# Altium schematic symbol library SCH_LIB.SchLib: 64 symbols
Pins are listed as number, name and electrical type; pins without a type are passive.

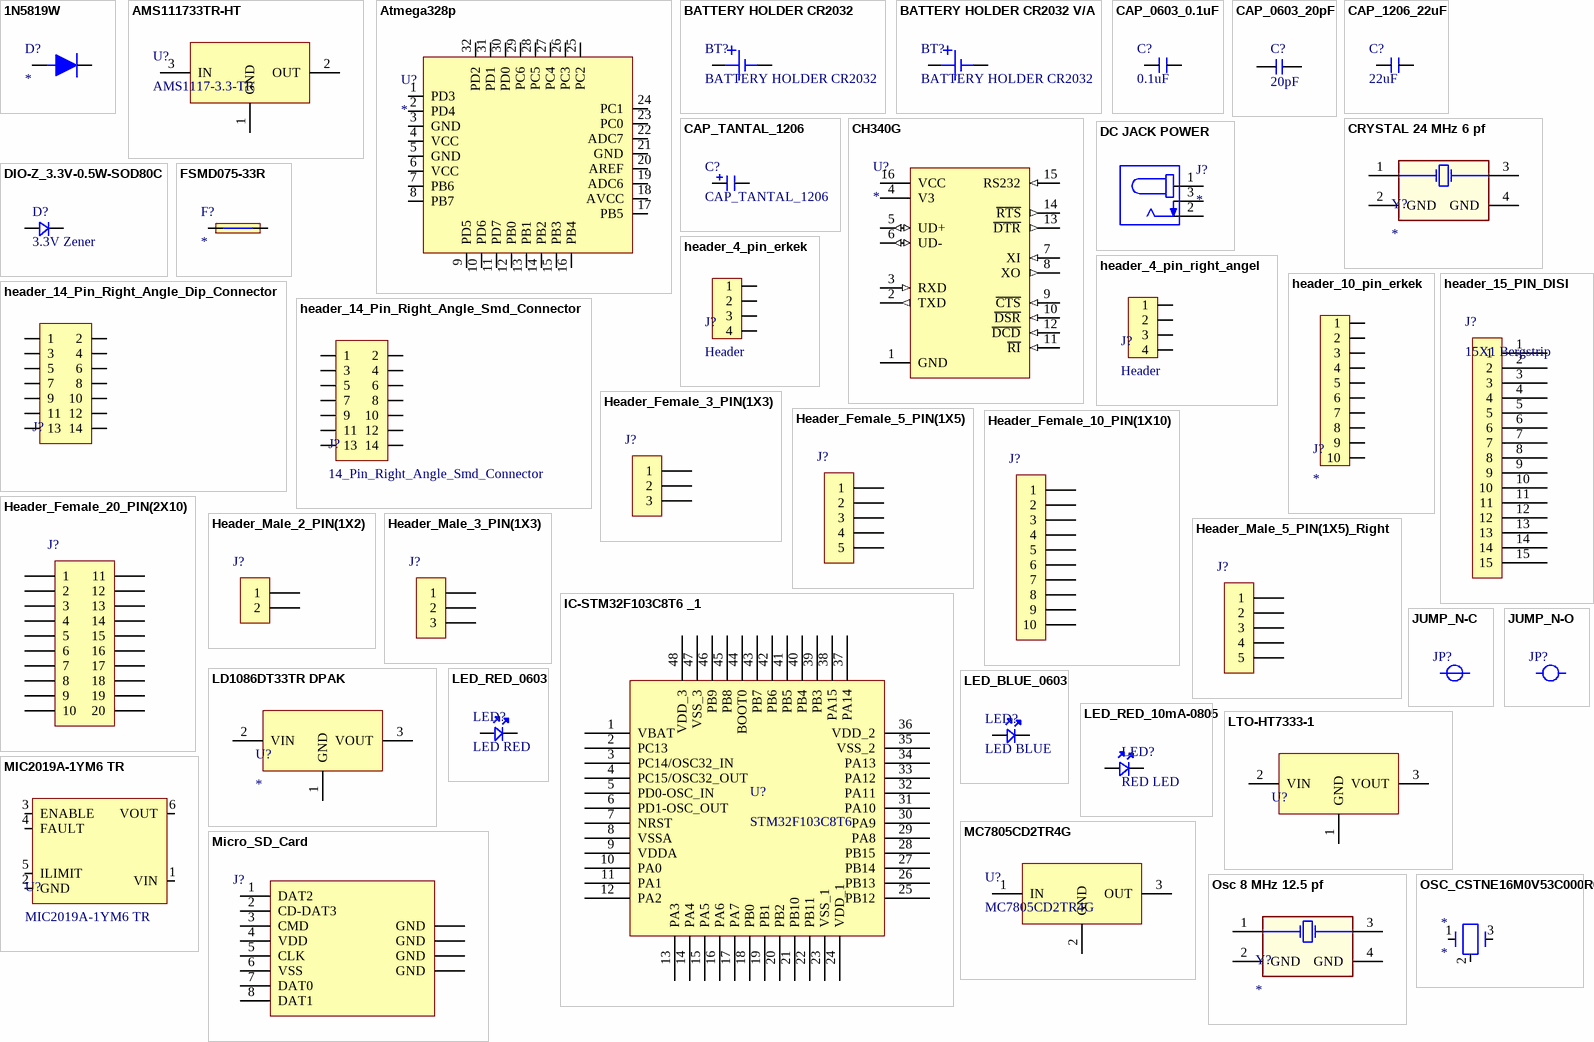
[diagram p0: symbols 1N5819W to OSC_CSTNE16M0V53C000R0]

## 1N5819W
designator D?
DIODE SCHOTTKY 1A 40V SOD123; ComponentLink1Description: https://ozdisan.com/guc-yari-iletkenleri/diyotlar-modul-diyotlar-ve-dogrultucular/schottky-diyotlar/B5819W/469437; ComponentLink1URL: https://ozdisan.com/guc-yari-iletkenleri/diyotlar-modul-diyotlar-ve-dogrultucular/schottky-diyotlar/B5819W/469437
footprint SOD-123
pins: A AN, C CA

## AMS111733TR-HT
designator U?, comment AMS1117-3.3-TR
IC-1117 REG LDO 3.3V 1A SOT223; ComponentLink1Description: https://ozdisan.com/Product/Detail/524953/AMS111733TR-HT; ComponentLink1URL: https://ozdisan.com/Product/Detail/524953/AMS111733TR-HT
footprint SOT-223
pins: 1 GND, 2 OUT, 3 IN

## Atmega328p
designator U?
footprint TQFP32 (TQFP, 32-Leads, Body 7,00x7,00mm, Pitch 0,80mm, IPC Medium Density)
pins: 1 PD3, 2 PD4, 3 GND, 4 VCC, 5 GND, 6 VCC, 7 PB6, 8 PB7, 9 PD5, 10 PD6, 11 PD7, 12 PB0, 13 PB1, 14 PB2, 15 PB3, 16 PB4, 17 PB5, 18 AVCC, 19 ADC6, 20 AREF, 21 GND, 22 ADC7, 23 PC0, 24 PC1, 25 PC2, 26 PC3, 27 PC4, 28 PC5, 29 PC6, 30 PD0, 31 PD1, 32 PD2

## BATTERY HOLDER CR2032
designator BT?
BATTERY HOLDER SMD FOR CR2032 METAL BULK; ComponentLink1Description: https://ozdisan.com/bataryalar/batarya-aksesuarlari/pil-yuvalari/BH201/355554; ComponentLink1URL: https://ozdisan.com/bataryalar/batarya-aksesuarlari/pil-yuvalari/BH201/355554
footprint BATTERY HOLDER CR2032
pins: N 1, P 0

## BATTERY HOLDER CR2032 V/A
designator BT?, comment BATTERY HOLDER CR2032
BATTERY HOLDER FOR CR2032 LOCKED V/A; ComponentLink1Description: https://ozdisan.com/bataryalar/batarya-aksesuarlari/pil-yuvalari/BH201/355554; ComponentLink1URL: https://ozdisan.com/bataryalar/batarya-aksesuarlari/pil-yuvalari/BH201/355554
footprint BATTERY HOLDER CR2032 V/A (BATTERY HOLDER FOR CR2032 LOCKED V/A)
pins: N 1, P 0

## CAP_0603_0.1uF
designator C?, comment 0.1uF
footprint CAP 0603 (Chip Capacitor, 2-Leads, Body 1,55x0,85mm, IPC Medium Density)
pins: 1, 2

## CAP_0603_20pF
designator C?, comment 20pF
footprint CAP 0603 (Chip Capacitor, 2-Leads, Body 1,55x0,85mm, IPC Medium Density)
pins: 1, 2

## CAP_1206_22uF
designator C?, comment 22uF
footprint CAP 1206 (Chip Capacitor, 2-Leads, Body 3,20x1,60mm, IPC Medium Density)
pins: 1, 2

## CAP_TANTAL_1206
designator C?
CAP.TANTAL 10uF 10V 10% A CASE (3216)
footprint CAP -Tantal-1206 (CAP.TANTAL 10uF 10V 10% A CASE (3216))
pins: A 1, K 2

## CH340G
designator U?
IC-340 USB INTERFACE SO16; ComponentLink1Description: https://www.ozdisan.com/entegre-devreler-icler/interface-entegreleri/arayuz-kontrolor-entegreleri/CH340G/469466; ComponentLink1URL: https://www.ozdisan.com/entegre-devreler-icler/interface-entegreleri/arayuz-kontrolor-entegreleri/CH340G/469466
footprint SOIC16N
pins: 1 GND (power), 2 TXD (out), 3 RXD (in), 4 V3 (power), 5 UD+ (io), 6 UD- (io), 7 XI (in), 8 XO (out), 9 ~{CTS} (in), 10 ~{DSR} (in), 11 ~{RI} (in), 12 ~{DCD} (in), 13 ~{DTR} (out), 14 ~{RTS} (out), 15 RS232 (in), 16 VCC (power)

## CRYSTAL 24 MHz 6 pf
designator Y?
8 MHz 12.5 pf Osc
footprint OSC_XRCGB24M000F2P00R0
pins: 1 (power) "Regulator Input Supply. Bypass IN to GND with a 1 uF or greater capacitor.", 2 GND (power) "Ground.", 3 "Enable Input. Drive EN high to turn on the regulator; drive it low to turn off the regulator. For automatic startup, connect EN to IN.", 4 GND "Connect a 1 nF or greater capacitor (10 nF is recommended) between BYP and GND to reduce the internal reference noise for low noise applications."

## DC JACK POWER
designator J?
CONNECTOR DC JACK POWER PCB TYPE 2.50MM; ComponentLink1Description: https://ozdisan.com/konnektor-ve-baglanti-elemanlari/power-konnektorler/power-jackler/CK-DC-25-01/693202; ComponentLink1URL: https://ozdisan.com/konnektor-ve-baglanti-elemanlari/power-konnektorler/power-jackler/CK-DC-25-01/693202
footprint DC JACK POWER (CONNECTOR DC JACK POWER PCB TYPE 2.50MM)
pins: 1, 2, 3

## DIO-Z_3.3V-0.5W-SOD80C
designator D?, comment 3.3V Zener
Zener Diode 3.3V 500mW ±5% Surface Mount LLDS; MiniMelf; Manufacturer: Nexperia USA Inc.; Manufacturing Part Number: BZV55-C3V3,115; Case/Package: SOD80C; Supplier-1: Digikey; Supplier Part Number-1: 1727-4970-1-ND
footprint DIO_SOD80C (Voltage regulator diodes)
pins: A, K

## FSMD075-33R
designator F?
THERMISTOR PTC RESETTABLE FUSE 1812 750mA 33V; ComponentLink1Description: https://ozdisan.com/devre-koruyucular/sigorta-bilesenleri/ptc-sigortalar/FSMD075-33R/537034; ComponentLink1URL: https://ozdisan.com/devre-koruyucular/sigorta-bilesenleri/ptc-sigortalar/FSMD075-33R/537034
footprint PTC_1812
pins: 1, 2

## header_4_pin_erkek
designator J?, comment Header
footprint HEADER_4_PIN_ERKEK (Berg strip)
pins: 1, 2, 3, 4

## header_4_pin_right_angel
designator J?, comment Header
footprint HEADER_4_pin_right_angle_dip
pins: 1, 2, 3, 4

## header_10_pin_erkek
designator J?
footprint HEADER_10_pin_erkek_ (Berg strip)
pins: 1, 2, 3, 4, 5, 6, 7, 8, 9, 10

## header_14_Pin_Right_Angle_Dip_Connector
designator J?
footprint HEADER_14_pin_right_angle_dip
pins: 1, 2, 3, 4, 5, 6, 7, 8, 9, 10, 11, 12, 13, 14

## header_14_Pin_Right_Angle_Smd_Connector
designator J?, comment 14_Pin_Right_Angle_Smd_Connector
footprint HEADER_14_Pin_Right_Angle_Smd_Connector
pins: 1, 2, 3, 4, 5, 6, 7, 8, 9, 10, 11, 12, 13, 14

## header_15_PIN_DISI
designator J?, comment 15X1 Bergstrip
20 pin, 1 row, 2.54mm pitch bergstrip; Manufacturer: NA; Manufacturing Part Number: NA; Case/Package: TH; Supplier-1: NA; Supplier Part Number-1: NA
footprint HEADER_15_PIN_DISI (Berg strip)
pins: 1, 2, 3, 4, 5, 6, 7, 8, 9, 10, 11, 12, 13, 14, 15

## Header_Female_3_PIN(1X3)
designator J?
PIN HEADER 3PIN(1x3) 2.54mm THT V\T
footprint HEADER_FEMALE_3_PIN(1X3)
pins: 1, 2, 3

## Header_Female_5_PIN(1X5)
designator J?
PIN HEADER 5PIN(1x5) 2.54mm THT V\T
footprint HEADER_FEMALE_5_PIN(1X5) (Berg strip)
pins: 1, 2, 3, 4, 5

## Header_Female_10_PIN(1X10)
designator J?
FEMALE HEADER 10PIN(1x10) 2.54mm THT V/T TRAY
footprint HEADER_FEMALE_10_PIN(1X10) (Berg strip)
pins: 1, 2, 3, 4, 5, 6, 7, 8, 9, 10

## Header_Female_20_PIN(2X10)
designator J?
FEMALE HEADER 20PIN(2x10) 2.54mm THT V/T TRAY; Manufacturer: NA; Manufacturing Part Number: NA; Case/Package: TH; Supplier-1: NA; Supplier Part Number-1: NA
footprint HEADER_FEMALE_20_PIN(2X10) (Berg strip)
pins: 1, 2, 3, 4, 5, 6, 7, 8, 9, 10, 11, 12, 13, 14, 15, 16, 17, 18, 19, 20

## Header_Male_2_PIN(1X2)
designator J?
PIN HEADER 2PIN(1x2) 2.54mm THT V/T
footprint HEADER_MALE_2_PIN(1X2)
pins: 1, 2

## Header_Male_3_PIN(1X3)
designator J?
PIN HEADER 3PIN(1x3) 2.54mm THT V/T
footprint HEADER_MALE_3_PIN(1X3)
pins: 1, 2, 3

## Header_Male_5_PIN(1X5)_Right
designator J?
PIN HEADER 5PIN(1x5) 2.54mm THT R/A
footprint HEADER_MALE_5_PIN(1X5)_RIGHT
pins: 1, 2, 3, 4, 5

## IC-STM32F103C8T6 _1
designator U?, comment STM32F103C8T6
ARM® Cortex®-M3 STM32F1 Microcontroller IC 32-Bit 72MHz 64KB (64K x 8) FLASH; Manufacturer: STMicroelectronics; Manufacturer Part Number: STM32F103C8T6; Case/Package: 48-LQFP; Supplier-1: Digikey; Supplier Part Number-1: 497-6063-ND
footprint LQFP-48_19.6_393_58X11_SMD (48LQFP)
pins: 1 VBAT, 2 PC13, 3 PC14/OSC32_IN, 4 PC15/OSC32_OUT, 5 PD0-OSC_IN, 6 PD1-OSC_OUT, 7 NRST, 8 VSSA, 9 VDDA, 10 PA0, 11 PA1, 12 PA2, 13 PA3, 14 PA4, 15 PA5, 16 PA6, 17 PA7, 18 PB0, 19 PB1, 20 PB2, 21 PB10, 22 PB11, 23 VSS_1, 24 VDD_1, 25 PB12, 26 PB13, 27 PB14, 28 PB15, 29 PA8, 30 PA9, 31 PA10, 32 PA11, 33 PA12, 34 PA13, 35 VSS_2, 36 VDD_2, 37 PA14, 38 PA15, 39 PB3, 40 PB4, 41 PB5, 42 PB6, 43 PB7, 44 BOOT0, 45 PB8, 46 PB9, 47 VSS_3, 48 VDD_3

## JUMP_N-C
designator JP?  (value not drawn)
footprint JUMP_N-C 0,254
pins: 1, 2

## JUMP_N-O
designator JP?
footprint JUMP_N-O  0,254
pins: 1, 2

## LD1086DT33TR DPAK
designator U?
LD1086 3.3V REGULATOR
footprint DPAK228P972X230-3N (D-PAK, 3-Pads, Body 6,40x6,56mm (max), IPC Medium Density)
pins: 1 GND, 2 VIN, 3 VOUT

## LED_BLUE_0603
designator LED?, comment LED BLUE
footprint LED_0603
pins: A, C

## LED_RED_10mA-0805
designator LED?, comment RED LED
Red 621nm LED Indication - Discrete 2V 0805 (2012 Metric); Manufacturer: Lite-On Inc.; Manufacturer Part Number: LTST-C170EKT; Case/ Package: 0805; Supplier-1: Digikey; Supplier Part Number-1: 160-1178-1-ND
footprint LED_0805 (LED)
pins: A, C

## LED_RED_0603
designator LED?, comment LED RED
footprint LED_0603
pins: A, C

## LTO-HT7333-1
designator U?
HT7333-1 / 30V, 250mA TinyPowerTM LDO
footprint SOT89-150P350X150-3N (SOT89, 3-Leads, Body 4,55x2,50mm, Pitch 1,50mm, Lead Span 3,5mm, IPC Medium Density)
pins: 1 GND, 2 VIN, 3 VOUT

## MC7805CD2TR4G
designator U?
IC-7805 V.REG.+5V 1A D2PAK(TO263) SMD; ComponentLink1Description: https://ozdisan.com/entegre-devreler-icler/guc-entegreleri/lineer-voltaj-regulatorleri/MC7805CD2TR4G/361988; ComponentLink1URL: https://ozdisan.com/entegre-devreler-icler/guc-entegreleri/lineer-voltaj-regulatorleri/MC7805CD2TR4G/361988
footprint D2PAK(TO263)
pins: 1 IN, 2 GND, 3 OUT

## MIC2019A-1YM6 TR
designator U?
footprint SOT95P280X90-6N (SOT23, 6-Leads, Body 2,90x2,80mm, Pitch 0,95mm, IPC Medium Density)
pins: 1 VIN, 2 GND, 3 ENABLE, 4 FAULT, 5 ILIMIT, 6 VOUT

## Micro_SD_Card
designator J?  (value not drawn)
CONNECTOR MICRO SD 8PIN RIGHT ANGLE SMD H1.8; ComponentLink1Description: https://www.ozdisan.com/konnektor-ve-baglanti-elemanlari/hafiza-konnektorleri/pc-kart-soketleri/L-KLS1-TF-007-H1-8-R/530252; ComponentLink1URL: https://www.ozdisan.com/konnektor-ve-baglanti-elemanlari/hafiza-konnektorleri/pc-kart-soketleri/L-KLS1-TF-007-H1-8-R/530252
footprint Micro_SD_Card
pins: 1 DAT2 (power), 2 CD-DAT3, 3 CMD (power), 4 VDD (power), 5 CLK (power), 6 VSS (power), 7 DAT0 (power), 8 DAT1 (power), GND, GND, GND, GND

## Osc 8 MHz 12.5 pf
designator Y?
8 MHz 12.5 pf Osc
footprint OSC 8 MHZ
pins: 1 (power) "Regulator Input Supply. Bypass IN to GND with a 1 uF or greater capacitor.", 2 GND (power) "Ground.", 3 "Enable Input. Drive EN high to turn on the regulator; drive it low to turn off the regulator. For automatic startup, connect EN to IN.", 4 GND "Connect a 1 nF or greater capacitor (10 nF is recommended) between BYP and GND to reduce the internal reference noise for low noise applications."

## OSC_CSTNE16M0V53C000R0
designator *
footprint OSC_CSTNE16M0V53C000R0
pins: 1 0, 2 GND, 3 1

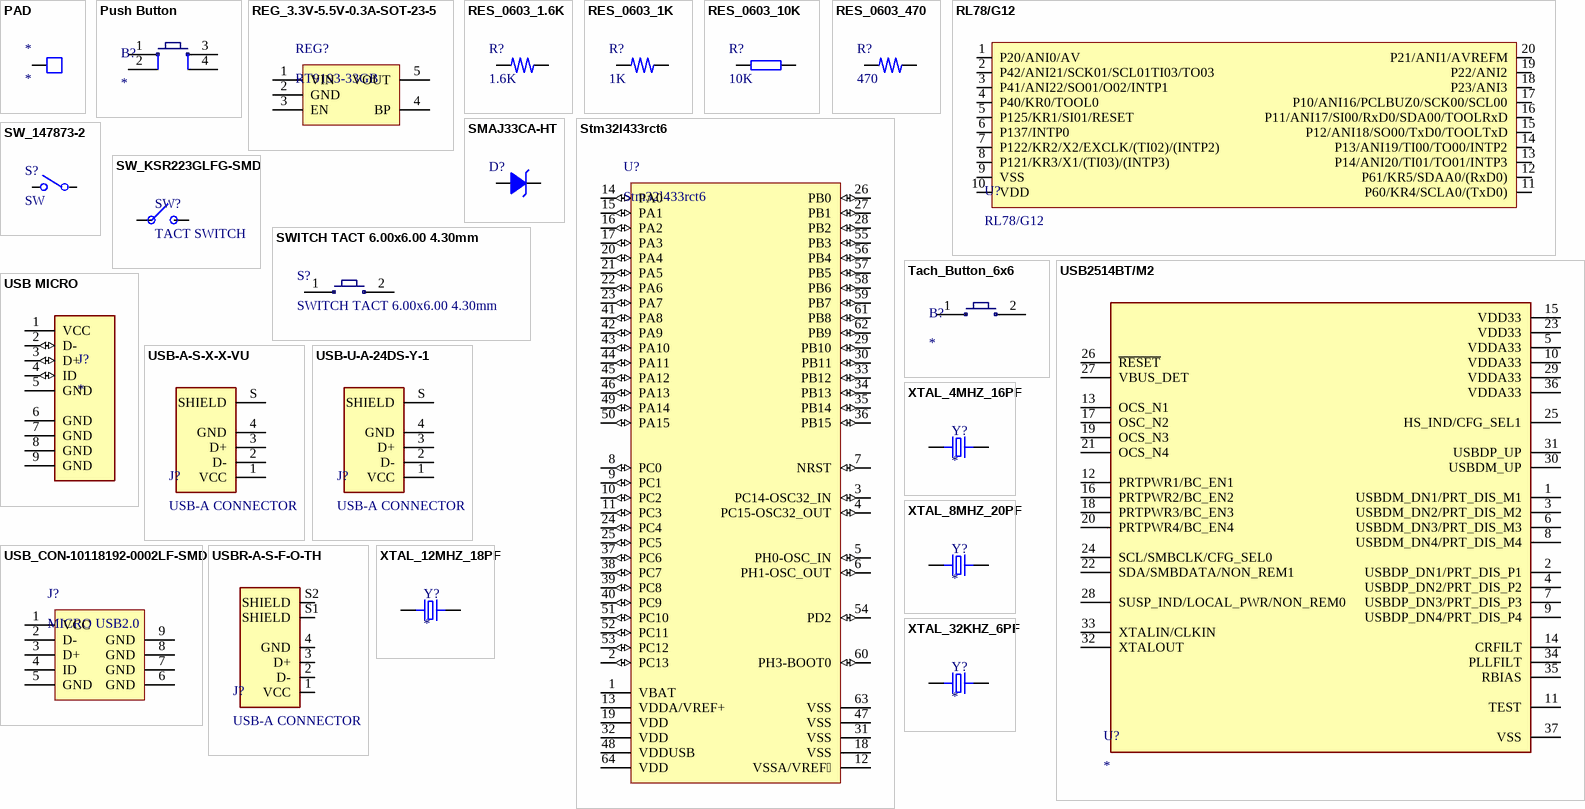
[diagram p1: symbols PAD to XTAL_32KHZ_6PF]

## PAD
designator *
footprint PAD (2MM)
pins: 1 2

## Push Button
designator B?
Smd Push Button; Satın Alma Linki: https://urun.n11.com/diger/mini-pushbutton-switch-smd-P227461537?gclid=Cj0KCQjwkoDmBRCcARIsAG3xzl8Y_-jeD7HocNM6lvuZ_rVp83568XPGtNzlPwXWLph8oCRqo0yh87UaApZYEALw_wcB&gclsrc=aw.ds
footprint PUSB BUTTON-SMD
footprint switch_button
pins: 1, 2, 3, 4

## REG_3.3V-5.5V-0.3A-SOT-23-5
designator REG?, comment RT9193-33GB
Linear Voltage Regulator IC 1 Output 300mA SOT-23-5; Manufacturer: Richtek USA Inc.; Manufacturer Part Number: RT9193-33GB; Case/ Package: SOT-23-5; Supplier-1: Digikey; Supplier Part Number-1: 1028-1014-1-ND
footprint SOT23-5 (CASE: SOT)
pins: 1 VIN, 2 GND, 3 EN, 4 BP, 5 VOUT

## RES_0603_1.6K
designator R?, comment 1.6K
footprint RES 0603 (Chip Capacitor, 2-Leads, Body 1,55x0,85mm, IPC Medium Density)
pins: 1, 2

## RES_0603_1K
designator R?, comment 1K
footprint RES 0603 (Chip Capacitor, 2-Leads, Body 1,55x0,85mm, IPC Medium Density)
pins: 1, 2

## RES_0603_10K
designator R?, comment 10K
footprint RES 0603 (Chip Capacitor, 2-Leads, Body 1,55x0,85mm, IPC Medium Density)
pins: 1, 2

## RES_0603_470
designator R?, comment 470
footprint RES 0603 (Chip Capacitor, 2-Leads, Body 1,55x0,85mm, IPC Medium Density)
pins: 1, 2

## RL78/G12
designator U?
footprint LSSOP20 (TSOP, 20-Leads, Body 6,50x4,40mm, Pitch 0,65mm, IPC Medium Density)
pins: 1 P20/ANI0/AV, 2 P42/ANI21/SCK01/SCL01TI03/TO03, 3 P41/ANI22/SO01/O02/INTP1, 4 P40/KR0/TOOL0, 5 P125/KR1/SI01/RESET, 6 P137/INTP0, 7 P122/KR2/X2/EXCLK/(TI02)/(INTP2), 8 P121/KR3/X1/(TI03)/(INTP3), 9 VSS, 10 VDD, 11 P60/KR4/SCLA0/(TxD0), 12 P61/KR5/SDAA0/(RxD0), 13 P14/ANI20/TI01/TO01/INTP3, 14 P13/ANI19/TI00/TO00/INTP2, 15 P12/ANI18/SO00/TxD0/TOOLTxD, 16 P11/ANI17/SI00/RxD0/SDA00/TOOLRxD, 17 P10/ANI16/PCLBUZ0/SCK00/SCL00, 18 P23/ANI3, 19 P22/ANI2, 20 P21/ANI1/AVREFM

## SMAJ33CA-HT
designator D?  (value not drawn)
DIODE TVS 400W 33V DO214AC SMA; ComponentLink1Description: https://ozdisan.com/guc-yari-iletkenleri/diyotlar-modul-diyotlar-ve-dogrultucular/tvs-diyotlar/SMAJ33CA-HT/466822; ComponentLink1URL: https://ozdisan.com/guc-yari-iletkenleri/diyotlar-modul-diyotlar-ve-dogrultucular/tvs-diyotlar/SMAJ33CA-HT/466822
footprint DO214AC (SMA)
pins: 1 A, 2 K

## Stm32l433rct6
designator U?
Ultra-low-power with FPU ARM Cortex-M4 MCU 80 MHz with 256 Kbytes Flash, LCD, USB; Manufacturer: STMicroelectronics; Supplier: Mouser; Supplier Part Number: 511-STM32L433RCT6; Manufacturer Part Number: STM32L433RCT6; RoHS: Yes; Category: Microcontrollers; Stock: 2539; Pricing: 1=6,86, 10=6,2, 50=5,14, 100=4,91, 1000=3,89, 10000=3,89 (USD); ComponentLink1URL: http://www.farnell.com/datasheets/2581765.pdf?src-supplier=Farnell; ComponentLink1Description: http://www.farnell.com/datasheets/2581765.pdf?src-supplier=Farnell; ComponentLink2URL: http://www.farnell.com/datasheets/2581765.pdf?src-supplier=Element14; ComponentLink2Description: http://www.farnell.com/datasheets/2581765.pdf?src-supplier=Element14; ComponentLink3URL: http://www.farnell.com/datasheets/2581765.pdf?src-supplier=Newark; ComponentLink3Description: http://www.farnell.com/datasheets/2581765.pdf?src-supplier=Newark; ComponentLink4URL: http://www.st.com/content/ccc/resource/technical/document/reference_manual/group0/b0/ac/3e/8f/6d/21/47/af/DM00151940/files/DM00151940.pdf/jcr:content/translations/en.DM00151940.pdf?src-supplier=Digi-Key; ComponentLink4Description: http://www.st.com/content/ccc/resource/technical/document/reference_manual/group0/b0/ac/3e/8f/6d/21/47/af/DM00151940/files/DM00151940.pdf/jcr:content/translations/en.DM00151940.pdf?src-supplier=Digi-Key; ComponentLink5URL: https://datasheet.octopart.com/STM32L433RCT6-STMicroelectronics-datasheet-62336854.pdf?src-supplier=Future+Electronics; ComponentLink5Description: https://datasheet.octopart.com/STM32L433RCT6-STMicroelectronics-datasheet-62336854.pdf?src-supplier=Future+Electronics; ComponentLink6URL: https://datasheet.octopart.com/STM32L433RCT6-STMicroelectronics-datasheet-82526589.pdf?src-supplier=SHENGYU+ELECTRONICS; ComponentLink6Description: https://datasheet.octopart.com/STM32L433RCT6-STMicroelectronics-datasheet-82526589.pdf?src-supplier=SHENGYU+ELECTRONICS; ComponentLink7Description: https://ozdisan.com/Product/Detail/492672/STM32L433RCT6; ComponentLink7URL: https://ozdisan.com/Product/Detail/492672/STM32L433RCT6
footprint LQFP 64 - (10 x 10)
pins: 1 VBAT (power), 2 PC13 (io), 3 PC14-OSC32_IN (io), 4 PC15-OSC32_OUT (io), 5 PH0-OSC_IN (io), 6 PH1-OSC_OUT (io), 7 NRST (io), 8 PC0 (io), 9 PC1 (io), 10 PC2 (io), 11 PC3 (io), 12 VSSA/VREF (power), 13 VDDA/VREF+ (power), 14 PA0 (io), 15 PA1 (io), 16 PA2 (io), 17 PA3 (io), 18 VSS (power), 19 VDD (power), 20 PA4 (io), 21 PA5 (io), 22 PA6 (io), 23 PA7 (io), 24 PC4 (io), 25 PC5 (io), 26 PB0 (io), 27 PB1 (io), 28 PB2 (io), 29 PB10 (io), 30 PB11 (io), 31 VSS (power), 32 VDD (power), 33 PB12 (io), 34 PB13 (io), 35 PB14 (io), 36 PB15 (io), 37 PC6 (io), 38 PC7 (io), 39 PC8 (io), 40 PC9 (io), 41 PA8 (io), 42 PA9 (io), 43 PA10 (io), 44 PA11 (io), 45 PA12 (io), 46 PA13 (io), 47 VSS (power), 48 VDDUSB (power), 49 PA14 (io), 50 PA15 (io), 51 PC10 (io), 52 PC11 (io), 53 PC12 (io), 54 PD2 (io), 55 PB3 (io), 56 PB4 (io), 57 PB5 (io), 58 PB6 (io), 59 PB7 (io), 60 PH3-BOOT0 (io), 61 PB8 (io), 62 PB9 (io), 63 VSS (power), 64 VDD (power)

## SW_147873-2
designator S?, comment SW
Switch Tactile OFF _ON_ SPST Rectangular Button J-Bend 0.05A 24VDC 1.77N SMD T/R; MP: 147873-2; Contact_Current_Rating: 50 mA; Configuration_Pole-Throw: Single Pole - Single Throw; MF: TE Connectivity; Value: *; Digi-Key_Purchase_URL: https://www.digikey.it/product-detail/en/te-connectivity-alcoswitch-switches/147873-2/450-2049-1-ND/4146922?utm_source=snapeda&utm_medium=aggregator&utm_campaign=symbol; Package: None; TE_purchase_URL: https://www.te.com/usa-en/product-147873-2.html?te_bu=Cor&te_type=disp&te_campaign=seda_glo_cor-seda-global-disp-prtnr-fy19-seda-model-bom-cta_sma-317_1&elqCampaignId=32493; Digi-Key_Part_Number: 450-2049-1-ND; SnapEDA_Link: https://www.snapeda.com/parts/147873-2/TE%20Connectivity%20ALCOSWITCH%20Switches/view-part/275175/?ref=snap
footprint SW_147873-2
pins: 1, 2

## SW_KSR223GLFG-SMD
designator SW?, comment TACT SWITCH
Tactile Switch SPST-NO Top Actuated Surface Mount; Manufacturer: C&K; Manufacturing Part Number: KSR223GLFG; Case/Package: SMD; Supplier-1: Digikey; Supplier Part Number-1: 401-1704-1-ND
footprint SW_342_SMD (CASE: SMD)
pins: 1, 2

## SWITCH TACT 6.00x6.00 4.30mm
designator S?
SWITCH TACT 6.00x6.00 4.30mm 250gF SMT V/T
footprint SWITCH TACT 6.00x6.00 4.30mm
pins: 1, 2

## Tach_Button_6x6
designator B?
Smd Push Button; Satın Alma Linki: https://urun.n11.com/diger/mini-pushbutton-switch-smd-P227461537?gclid=Cj0KCQjwkoDmBRCcARIsAG3xzl8Y_-jeD7HocNM6lvuZ_rVp83568XPGtNzlPwXWLph8oCRqo0yh87UaApZYEALw_wcB&gclsrc=aw.ds
footprint Tach_Button_6x6
pins: 1, 2

## USB2514BT/M2
designator U?
USB Hub Controller USB Interface 36-SQFN (6x6); MF: Microchip; MP: USB2514BT/M2; Purchase-URL: https://pricing.snapeda.com/search/part/USB2514BT/M2/?ref=eda; Package: VFQFN-36 Microchip; Check_prices: https://www.snapeda.com/parts/USB2514BT/M2/Microchip/view-part/1051251/?ref=eda; Price: None; SnapEDA_Link: https://www.snapeda.com/parts/USB2514BT/M2/Microchip/view-part/1051251/?ref=snap; Availability: Warning; Value: *
footprint QFN50P600X600X100_HS-37N (QFN, 36-Leads, Body 6,00x6,00mm, Pitch 0,50mm, Thermal Pad 3,70x3,70mm, IPC Medium Density)
pins: 1 USBDM_DN1/PRT_DIS_M1, 2 USBDP_DN1/PRT_DIS_P1, 3 USBDM_DN2/PRT_DIS_M2, 4 USBDP_DN2/PRT_DIS_P2, 5 VDDA33, 6 USBDM_DN3/PRT_DIS_M3, 7 USBDP_DN3/PRT_DIS_P3, 8 USBDM_DN4/PRT_DIS_M4, 9 USBDP_DN4/PRT_DIS_P4, 10 VDDA33, 11 TEST, 12 PRTPWR1/BC_EN1, 13 OCS_N1, 14 CRFILT, 15 VDD33, 16 PRTPWR2/BC_EN2, 17 OSC_N2, 18 PRTPWR3/BC_EN3, 19 OCS_N3, 20 PRTPWR4/BC_EN4, 21 OCS_N4, 22 SDA/SMBDATA/NON_REM1, 23 VDD33, 24 SCL/SMBCLK/CFG_SEL0, 25 HS_IND/CFG_SEL1, 26 ~{RESET}, 27 VBUS_DET, 28 SUSP_IND/LOCAL_PWR/NON_REM0, 29 VDDA33, 30 USBDM_UP, 31 USBDP_UP, 32 XTALOUT, 33 XTALIN/CLKIN, 34 PLLFILT, 35 RBIAS, 36 VDDA33, 37 VSS

## USB MICRO
designator J?
CONNECTOR USB MICRO B TYPE FEMALE SMT R/A W/O POST; ComponentLink1Description: https://ozdisan.com/konnektor-ve-baglanti-elemanlari/usb-dvi-hdmi-konnektorler/usb-konnektorler/L-KLS1-233-0-0-0-T/490542; ComponentLink1URL: https://ozdisan.com/konnektor-ve-baglanti-elemanlari/usb-dvi-hdmi-konnektorler/usb-konnektorler/L-KLS1-233-0-0-0-T/490542
footprint MICRO USB B TYPE FEMALE SMT (CONNECTOR USB MICRO B TYPE FEMALE SMT R/A W/O POST)
pins: 1 VCC (power), 2 D- (io), 3 D+ (io), 4 ID (io), 5 GND (power), 6 GND, 7 GND, 8 GND, 9 GND

## USB-A-S-X-X-VU
designator J?, comment USB-A CONNECTOR
USB-A (USB TYPE-A) USB 2.0 Receptacle Connector 4 Position Through Hole, Right Angle; MF: Samtec; MP: USB-A-S-X-X-VU; Price: None; Availability: Unavailable; Value: *; Package: None
footprint USB_SAMTEC_USB-A-S-X-X-VU
pins: 1 VCC (power), 2 D-, 3 D+, 4 GND (power), S SHIELD

## USB-U-A-24DS-Y-1
designator J?, comment USB-A CONNECTOR
USB-A (USB TYPE-A) USB 2.0; MF: Samtec; MP: USB-A-S-X-X-VU; Price: None; Availability: Unavailable; Value: *; Package: None
footprint USB-U-A-24DS-Y-1
pins: 1 VCC (power), 2 D-, 3 D+, 4 GND (power), S SHIELD

## USB_CON-10118192-0002LF-SMD
designator J?, comment MICRO USB2.0
USB - micro B USB 2.0 Receptacle Connector 5 Position Surface Mount, Right Angle; Manufacturer: Amphenol ICC (FCI); Manufacturing Part Number: 10118192-0002LF; Case/Package: SMD; Supplier-1: Digikey; Supplier Part Number-1: 609-5379-1-ND
footprint USB_CON_10118192-0001LF_SMD (USB2.0 MICRO)
pins: 1 VCC, 2 D-, 3 D+, 4 ID, 5 GND, 6 GND, 7 GND, 8 GND, 9 GND

## USBR-A-S-F-O-TH
designator J?, comment USB-A CONNECTOR
USB-A _USB TYPE-A_ USB 2.0 Receptacle Connector 4 Position Through Hole, Right Angle; MF: Samtec; MP: USBR-A-S-F-O-TH; SnapEDA_Link: https://www.snapeda.com/parts/USBR-A-S-F-O-TH/Samtec%20Inc./view-part/932528/?ref=snap; Value: *; Toby_UK-Purchase-URL: https://snapeda.com/shop?store=Toby+UK&id=932528; Package: None; DigiKey-Purchase-URL: https://snapeda.com/shop?store=DigiKey&id=932528; Price: None; Availability: Unavailable
footprint USB_SAMTEC_R-A-S-F-O-TH
pins: 1 VCC, 2 D-, 3 D+, 4 GND, S1 SHIELD, S2 SHIELD

## XTAL_4MHZ_16PF
designator Y?
CRYSTAL 4MHZ HC49SMT 16PF SMD TR RALTRON; ComponentLink1Description: https://ozdisan.com/pasif-komponentler/kristaller-osilatorler-ve-rezanatorler/kristaller/AS-4-000-16-SMD-TR/40448; ComponentLink1URL: https://ozdisan.com/pasif-komponentler/kristaller-osilatorler-ve-rezanatorler/kristaller/AS-4-000-16-SMD-TR/40448
footprint XTAL_ECS-080-20-5PX-TR
pins: 1, 2

## XTAL_8MHZ_20PF
designator Y?
CRYSTAL 8MHZ HC49SMT 20PF SMD TR RALTRON; ComponentLink1Description: https://ozdisan.com/pasif-komponentler/kristaller-osilatorler-ve-rezanatorler/kristaller/AS-8-000-20-SMD-TR/352092; ComponentLink1URL: https://ozdisan.com/pasif-komponentler/kristaller-osilatorler-ve-rezanatorler/kristaller/AS-8-000-20-SMD-TR/352092
footprint XTAL_ECS-080-20-5PX-TR
pins: 1, 2

## XTAL_12MHZ_18PF
designator Y?
CRYSTAL 12.0000MHZ 18PF SMD; ComponentLink1Description: https://www.ozdisan.com/pasif-komponentler/kristaller-osilatorler-ve-rezanatorler/kristaller/AS-12-000-18-SMD-TR/642535; ComponentLink1URL: https://www.ozdisan.com/pasif-komponentler/kristaller-osilatorler-ve-rezanatorler/kristaller/AS-12-000-18-SMD-TR/642535
footprint XTAL_ECS-080-20-5PX-TR
pins: 1, 2

## XTAL_32KHZ_6PF
designator Y?
CRYSTAL 32.768 KHz 6pF SMT; ComponentLink1Description: https://ozdisan.com/pasif-komponentler/kristaller-osilatorler-ve-rezanatorler/kristaller/RT3215-32-768-6-EXT-TR/576635; ComponentLink1URL: https://ozdisan.com/pasif-komponentler/kristaller-osilatorler-ve-rezanatorler/kristaller/RT3215-32-768-6-EXT-TR/576635
footprint XTAL_RT3215-32.768-12.5-TR
pins: 1, 2